# Altium integrated library SU9H-03050.IntLib: 1 symbol
Pins are listed as number, name and electrical type; pins without a type are passive.

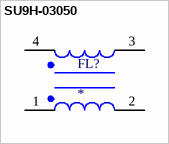
[diagram p0: symbol SU9H-03050]

## SU9H-03050
designator FL?
MF: {'manufacturer': u'KEMET'}; MP: SU9H-03050; Package: None; Price: None; Value: *; Availability: Unavailable
footprint FIL_SU9H-03050
pins: 1, 2, 3, 4